# EAGLE library part 1X6 (library J-HDR2.54mm)
6 POS HEADER PBC06SAAN [SULLINS,PBC06SAAN]HEADER MALE BRKWAY 6POS .1IN AA
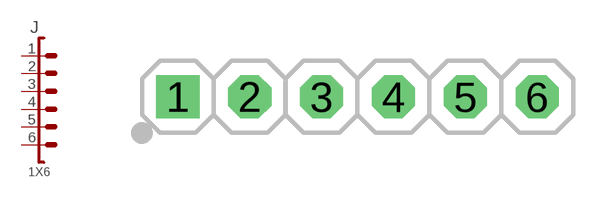
[diagram p11: symbol with the pads of 1X6; footprint 1X6]

Designator prefix J

## 1X6  [1X6]
1  1  pas
2  2  pas
3  3  pas
4  4  pas
5  5  pas
6  6  pas

## Footprint 1X6 (pad centres in mm)
6 PIN .1" CENTER 0.040" DRILL auto PAD http://www.sullinscorp.com/catalogs/78_Page80-81_HEADER_.100_2.54mm_FEMALE.pdf
drill 1.016 square: 1 0,0
drill 1.016 octagon: 2 2.54,0; 3 5.08,0; 4 7.62,0; 5 10.16,0; 6 12.7,0